# EAGLE library part I2C_LOGIC_LEVEL_CONVERTER (library SpatiumB)
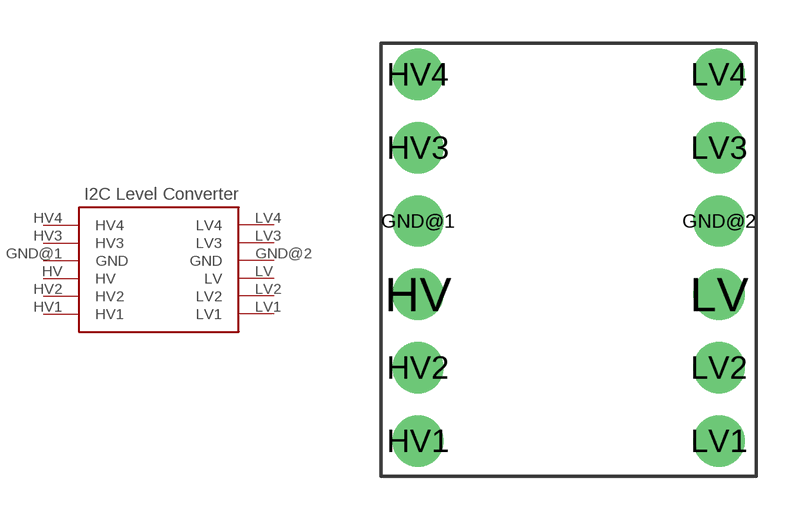
[diagram p3: symbol with the pads of I2C_LOGIC_LEVEL_CONVERTER; footprint I2C_LOGIC_LEVEL_CONVERTER]

Designator prefix -

## I2C_LOGIC_LEVEL_CONVERTER  [I2C_LOGIC_LEVEL_CONVERTER]
GND@1  GND
GND@2  GND
HV  HV
HV1  HV1
HV2  HV2
HV3  HV3
HV4  HV4
LV  LV
LV1  LV1
LV2  LV2
LV3  LV3
LV4  LV4

## Footprint I2C_LOGIC_LEVEL_CONVERTER (pad centres in mm)
drill 0.9 pad 1.778: GND@1 -5.12,1.74; GND@2 5.31,1.74; HV -5.12,-0.8; HV1 -5.12,-5.88; HV2 -5.12,-3.34; HV3 -5.12,4.28; HV4 -5.12,6.82; LV 5.31,-0.8; LV1 5.31,-5.88; LV2 5.31,-3.34; LV3 5.31,4.28; LV4 5.31,6.82